# EAGLE library part 74HC4052 (library MUX)
74xx4052 devices are digitally controlled analog switches which utilize silicon gate CMOS technology to achieve operating speeds similar to LSTTL with the low power consumption of standard CMOS integrated circuits. These analog multiplexers/demultiplexers control analog voltages that may vary across the voltage supply range (i.e., VCC to VEE). They are bidirectional switches thus allowing any analog input to be used as an output and vice-versa. The switches have low ON resistance and low OFF leakages. In addition, all three devices have an enable control which, when high, disables all switches to their OFF state.
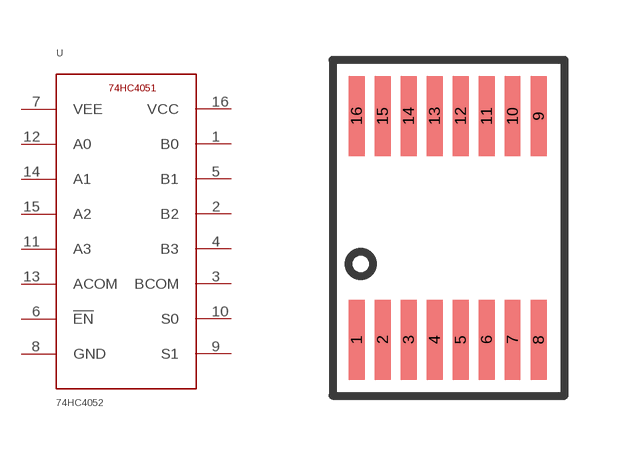
[diagram p2: symbol with the pads of TSSOP-16; footprint TSSOP-16]

Designator prefix U

## 74HC4052PW  [TSSOP-16]
1  B0
2  B2
3  BCOM
4  B3
5  B1
6  !EN!
7  VEE  pwr
8  GND  pwr
9  S1
10  S0
11  A3
12  A0
13  ACOM
14  A1
15  A2
16  VCC  pwr

## Footprint TSSOP-16 (pad centres in mm)
smd 0.4 x 2: 1 0,0; 2 0.65,0; 3 1.3,0; 4 1.95,0; 5 2.6,0; 6 3.25,0; 7 3.9,0; 8 4.55,0; 9 4.55,5.6; 10 3.9,5.6; 11 3.25,5.6; 12 2.6,5.6; 13 1.95,5.6; 14 1.3,5.6; 15 0.65,5.6; 16 0,5.6